# Altium footprint library SparkFun-Buzzard.PCBLIB: 53 footprints (part 1 of 4)
Each footprint in its own frame and in the unit in brackets; x right, y up, seen from the top. Pads: shape width x height; smd on the part's side, far side on the other; paste and mask are expansions set on the pad; w line width, h text height; cw(c..) or ccw(c..) is an arc to the next point about the centre after c.
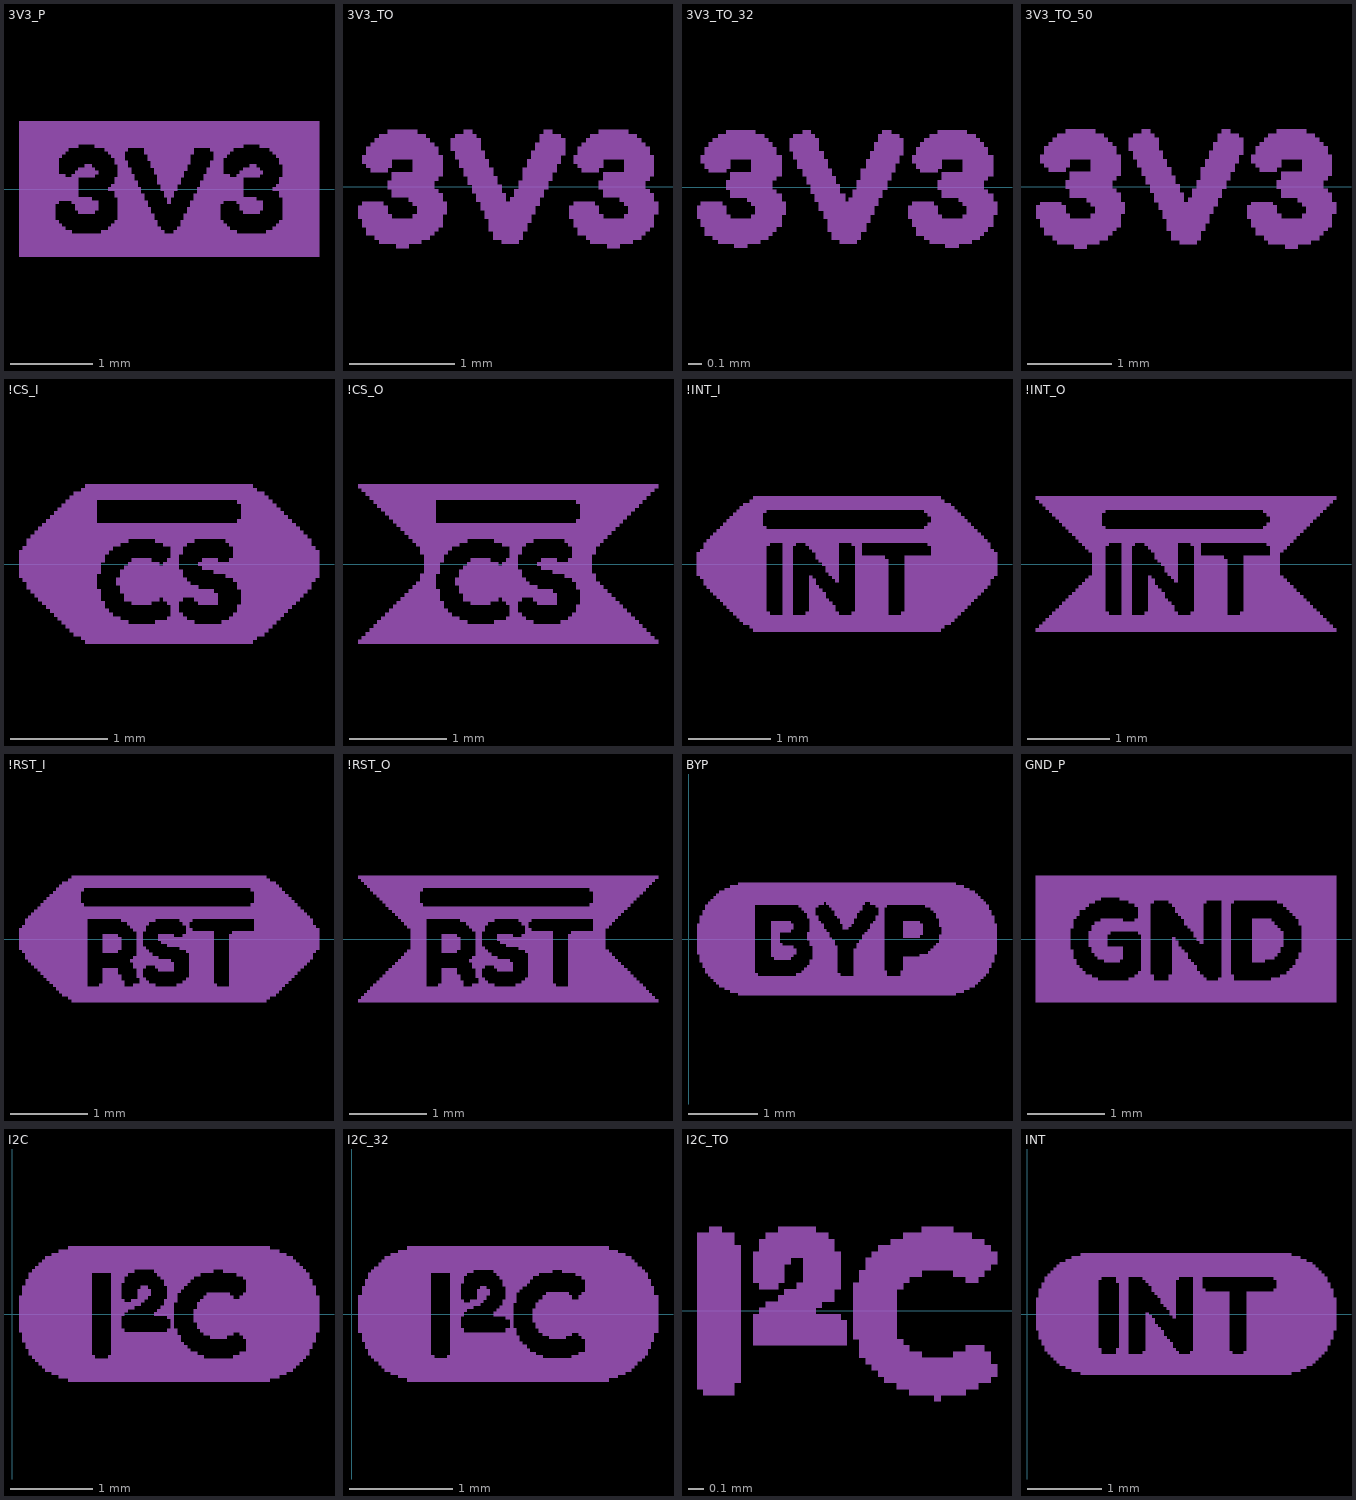
[diagram p0: the footprints below, top view; thin cyan lines are the x and y axes]

## 3V3_P [mm]
tPlace:
  drawing of 154 lines, arcs and shapes, not listed

## 3V3_TO [mm]
tPlace:
  drawing of 114 lines, arcs and shapes, not listed

## 3V3_TO_32 [mm]
tPlace:
  drawing of 114 lines, arcs and shapes, not listed

## 3V3_TO_50 [mm]
tPlace:
  drawing of 114 lines, arcs and shapes, not listed

## !CS_I [mm]
tPlace:
  drawing of 98 lines, arcs and shapes, not listed

## !CS_O [mm]
tPlace:
  drawing of 98 lines, arcs and shapes, not listed

## !INT_I [mm]
tPlace:
  drawing of 137 lines, arcs and shapes, not listed

## !INT_O [mm]
tPlace:
  drawing of 137 lines, arcs and shapes, not listed

## !RST_I [mm]
tPlace:
  drawing of 128 lines, arcs and shapes, not listed

## !RST_O [mm]
tPlace:
  drawing of 128 lines, arcs and shapes, not listed

## BYP [mm]
tPlace:
  drawing of 150 lines, arcs and shapes, not listed

## GND_P [mm]
tPlace:
  drawing of 173 lines, arcs and shapes, not listed

## I2C [mm]
tPlace:
  drawing of 122 lines, arcs and shapes, not listed

## I2C_32 [mm]
tPlace:
  drawing of 122 lines, arcs and shapes, not listed

## I2C_TO [mm]
tPlace:
  drawing of 83 lines, arcs and shapes, not listed

## INT [mm]
tPlace:
  drawing of 147 lines, arcs and shapes, not listed